# Altium schematic symbol library STM32WL5CCU.SchLib: 1 symbol
Pins are listed as number, name and electrical type; pins without a type are passive.

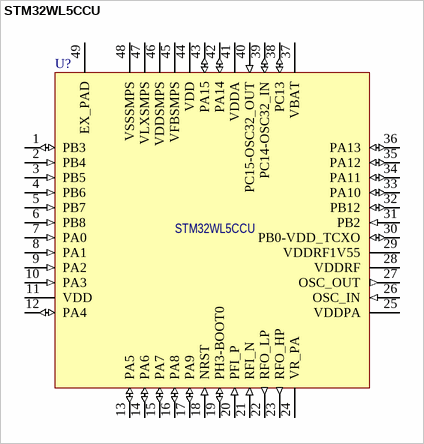
[diagram p0: symbol STM32WL5CCU]

## STM32WL5CCU
designator U?
Multiprotocol Wireless 32-bit MCU with LPWAN Sub-GHz radio solution; Потребление, Вт: 0.3; ComponentLink1Description: Datasheet; ComponentLink1URL: https://www.st.com/resource/en/datasheet/stm32wle5c8.pdf; Назначение: Multiprotocol Wireless 32-bit MCU with LPWAN Sub-GHz radio solution; Наименование: STM32WL5CCU
footprint UQFNPN48 (QFN, 48-Leads, Body 7,00x7,00mm, Pitch 0,50mm, Thermal Pad 5,55x5,55mm, IPC Medium Density)
pins: 1 PB3 (io), 2 PB4 (in), 3 PB5 (in), 4 PB6 (in), 5 PB7 (in), 6 PB8 (in), 7 PA0 (in), 8 PA1 (in), 9 PA2 (in), 10 PA3 (in), 11 VDD (power), 12 PA4 (io), 13 PA5 (io), 14 PA6 (io), 15 PA7 (io), 16 PA8 (io), 17 PA9 (io), 18 NRST (in), 19 PH3-BOOT0 (io), 20 PFI_P (in), 21 RFI_N (in), 22 RFO_LP (out), 23 RFO_HP (out), 24 VR_PA (power), 25 VDDPA (power), 26 OSC_IN (in), 27 OSC_OUT (out), 28 VDDRF (power), 29 VDDRF1V55 (power), 30 PB0-VDD_TCXO (io), 31 PB2 (in), 32 PB12 (io), 33 PA10 (io), 34 PA11 (io), 35 PA12 (io), 36 PA13 (io), 37 VBAT (power), 38 PC13 (io), 39 PC14-OSC32_IN (io), 40 PC15-OSC32_OUT (in), 41 VDDA (power), 42 PA14 (io), 43 PA15 (io), 44 VDD (power), 45 VFBSMPS (power), 46 VDDSMPS (power), 47 VLXSMPS (power), 48 VSSSMPS (power), 49 EX_PAD (power)